# Altium footprint library Passives.PcbLib: 18 footprints (part 2 of 2)
Each footprint in its own frame and in the unit in brackets; x right, y up, seen from the top. Pads: shape width x height; smd on the part's side, far side on the other; paste and mask are expansions set on the pad; w line width, h text height; cw(c..) or ccw(c..) is an arc to the next point about the centre after c.
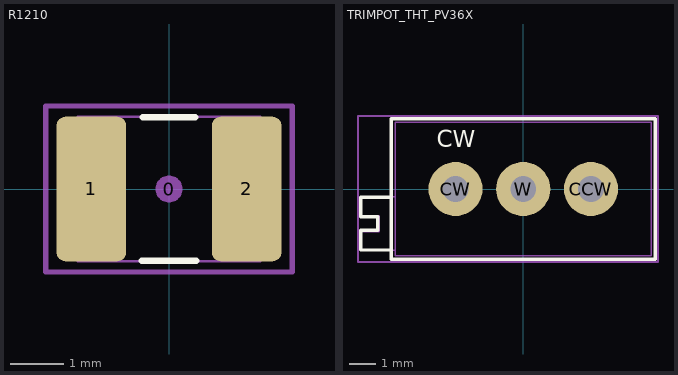
[diagram p1: the footprints below, top view; thin cyan lines are the x and y axes]

## R1210 [mm] "Chip Resistor, Body 3.2x2.5mm, EIA 1210, IPC Medium Density"
height 0.7
pads (3):
  round 0.508 on Mech15: 0(0,0)
  rrect25% 1.3x2.7 smd: 1(-1.45,0) 2(1.45,0)
Top Overlay:
  lines w0.127: -0.508,-1.339 0.508,-1.339 ; -0.483,1.339 0.483,1.339
Mechanical 13:
  lines w0.05: -1.7,-1.35 -1.7,1.35 -1.1,1.35 -1.1,-1.35 -1.7,-1.35 ; -1.1,-1.349 1.1,-1.349 -1.1,-1.349 ; -1.1,1.349 1.1,1.349 -1.1,1.349 ; 1.1,-1.35 1.7,-1.35 1.7,1.35 1.1,1.35 1.1,-1.35
Mechanical 15:
  lines w0.1: -2.3,-1.55 2.3,-1.55 2.3,1.55 -2.3,1.55 -2.3,-1.55
3D body "RES 1210 (3225 metric).STEP": height 0.69, standoff -0.01, extent -1.7,-1.35 1.7,1.35

## TRIMPOT_THT_PV36X [mil] "TRIMMER, MURATA, PV36X"
height 393.7
pads (3):
  round 80 hole 38: CCW(100,0) CW(-100,0) W(0,0)
Top Overlay:
  lines w5: -195,-90 -240,-90 -240,-61 -215,-61 -215,-41 -240,-41 -240,-12 -195,-12 ; -195,-104 -195,104 195,104 195,-104 -195,-104
  text "CW" at -127.56,61.69 h25
Mechanical 13:
  lines w1.97: -188.98,-90.55 -240.16,-90.55 -240.16,-62.99 -212.6,-62.99 -212.6,-39.37 -240.16,-39.37 -240.16,-11.81 -188.98,-11.81 ; -188.98,-98.43 188.98,-98.43 188.98,98.43 -188.98,98.43 -188.98,-98.43
Mechanical 15:
  lines w3: -244,-108 199,-108 199,108 -244,108 -244,-108
3D body "Trimmer PV36 Side Adjust.STEP": height 393.7, standoff -110.24, extent -240.16,-98.42 188.98,98.43